# EAGLE library part TPL5110 (library wsn)
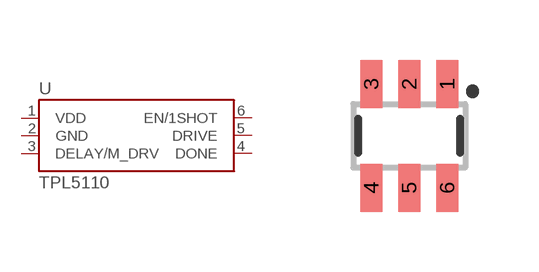
[diagram p61: symbol with the pads of SOT23-6; footprint SOT23-6]

Designator prefix -

## TPL5110  [SOT23-6]
1  VDD
2  GND
3  DELAY/M_DRV
4  DONE
5  DRIVE
6  EN/1SHOT

## Footprint SOT23-6 (pad centres in mm)
SOT23-6 Specifications: Pin count: 6 Example device(s): MCP4725
smd 0.55 x 1.2: 1 0.95,1.3; 2 0,1.3; 3 -0.95,1.3; 4 -0.95,-1.3; 5 0,-1.3; 6 0.95,-1.3